# Altium schematic symbol library TypeC6Pin.SchLib: 1 symbol
Pins are listed as number, name and electrical type; pins without a type are passive.

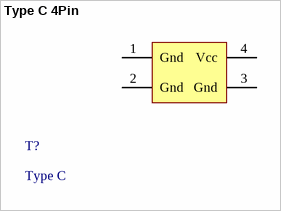
[diagram p0: symbol Type C 4Pin]

## Type C 4Pin
designator T?, comment Type C
cong cap nguon type c  4 chan
footprint TypeC6Pin
pins: 1 Gnd, 2 Gnd, 3 Gnd, 4 Vcc